# Altium footprint library 8.4V_SUPPLY_IN.PcbLib: 1 footprints
Each footprint in its own frame and in the unit in brackets; x right, y up, seen from the top. Pads: shape width x height; smd on the part's side, far side on the other; paste and mask are expansions set on the pad; w line width, h text height; cw(c..) or ccw(c..) is an arc to the next point about the centre after c.
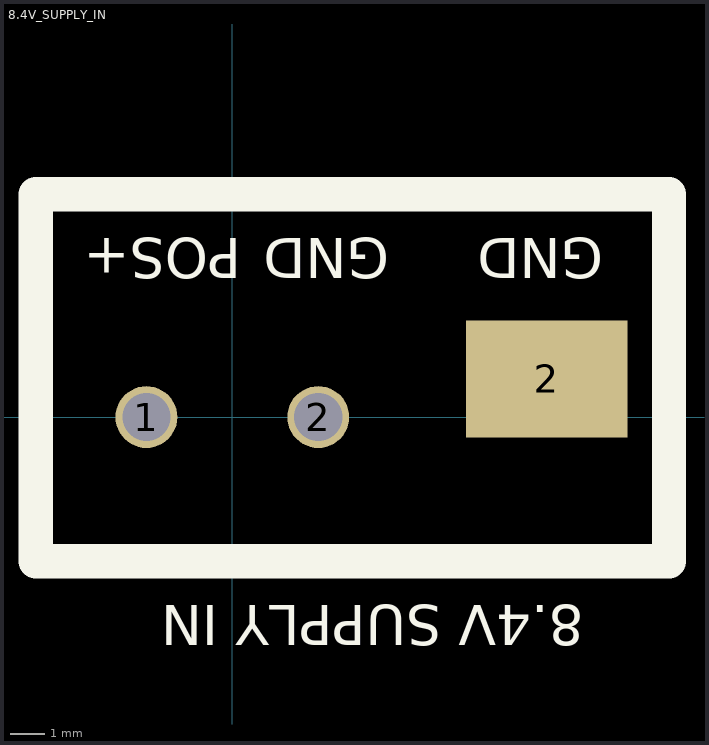
[diagram p0: the footprint, top view; thin cyan lines are the x and y axes]

## 8.4V_SUPPLY_IN [mm] "Pad for Bread Board"
pads (3):
  round 1.8 hole 1.4: 1(-2.5,0) 2(2.5,0)
  rect 4.7x3.4 smd: 2(9.144,1.11)
Top Overlay:
  lines w1: -5.715,-4.191 12.7,-4.191 12.7,6.477 -5.715,6.477 -5.715,-4.191
  text "GND" at 10.792,5.588 h2
  text "POS+" at 0.252,5.588 h2
  text "GND" at 4.569,5.588 h2
  text "8.4V SUPPLY IN" at 10.223,-5.08 h2
Mechanical 1:
  text ".designator" at -1.446,-0.635 h0.5
3D body "CONN_TERM_PWR_2P_2.54MM_TH.step": height 11.5, standoff -3.6, extent -5,-3.556 5,3.944
3D body "CONN_TP_SMD.STEP": height 2.29, standoff 0, extent 6.985,-0.279 10.795,2.565